# EAGLE library part DB9 (library IUTV3)
DB9 Connector female vertical Standard DB9 (D-Sub 9) serial connector. Can be used for CAN bus as well as RS485 and RS232. Footprint production proven. Spark Fun Electronics SKU : PRT-00429
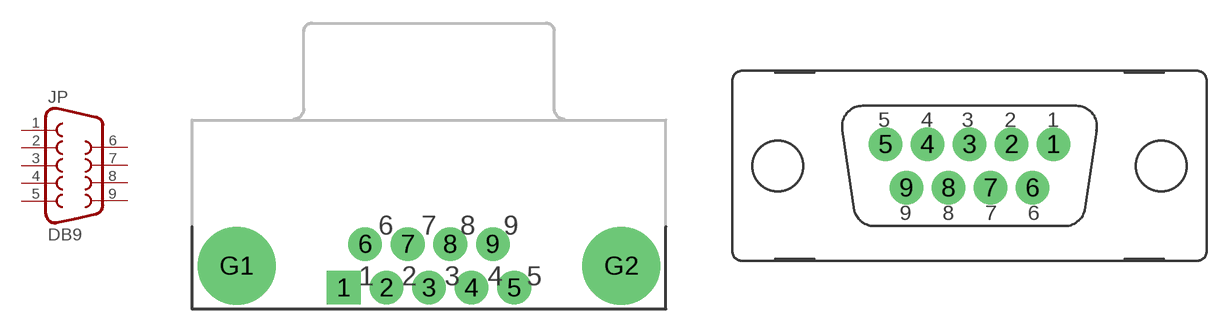
[diagram p13: symbol with the pads of DB9; footprints DB9, F09V]

Designator prefix JP

## DB9FEMALE (MOT_CLES_RADIOSPARE: Connecteur Sub-D pour circuit de carte imprimé FCI série Delta D, pas de 2.74mm Femelle 9 voies Angle droit Traversant; OC_FARNELL: 1348025; OC_RADIOSPARE: 251-970)  [DB9]
1  1  pas
2  2  pas
3  3  pas
4  4  pas
5  5  pas
6  6  pas
7  7  pas
8  8  pas
9  9  pas

## DB9FEMALE_V (MOT_CLES_RADIOSPARE: Connecteur Sub-D pour circuit de carte imprimé Femelle 9 voies Traversant; OC_FARNELL: 1210827; OC_RADIOSPARE: 528-3597)  [F09V]
Pads as for DB9

## DB9MALE (MOT_CLES_RADIOSPARE: Connecteur Sub-D pour circuit de carte imprimé male 9 voies angle droit Traversant; MPN: D09P13A4GL00LF; OC_FARNELL: 1348020; OC_RADIOSPARE: 252-478)  [DB9_MALE]
Pads as for DB9

## DB9MALE_V (MOT_CLES_RADIOSPARE: Connecteur Sub-D pour circuit de carte imprimé male 9 voies Traversant; MPN: D09P24A4PL00LF; OC_FARNELL: 2452369; OC_RADIOSPARE: 252-080)  [M09V]
Pads as for DB9

## Footprint DB9 (pad centres in mm)
SUB-D Femelle coudée
drill 1.016 pad 2.184 square: 1 -5.54,-1.42
drill 1.016 pad 2.184: 2 -2.77,-1.42; 3 0,-1.42; 4 2.77,-1.42; 5 5.54,-1.42; 6 -4.15,1.42; 7 -1.38,1.42; 8 1.38,1.42; 9 4.15,1.42
drill 3.302 pad 5.08: G1 -12.5,0; G2 12.5,0

## Footprint F09V (pad centres in mm)
SUB-D Female Vertical
drill 1.016 pad 2.184: 1 5.486,1.422; 2 2.743,1.422; 3 0,1.422; 4 -2.743,1.422; 5 -5.486,1.422; 6 4.115,-1.422; 7 1.372,-1.422; 8 -1.372,-1.422; 9 -4.115,-1.422
hole 3.302 at -12.522,0
hole 3.302 at 12.522,0

## Footprint DB9_MALE (pad centres in mm)
SUB-D male coudée
drill 1.016 pad 2.184 square: 1 5.54,-1.42
drill 1.016 pad 2.184: 2 2.77,-1.42; 3 0,-1.42; 4 -2.77,-1.42; 5 -5.54,-1.42; 6 4.15,1.42; 7 1.38,1.42; 8 -1.38,1.42; 9 -4.15,1.42
drill 3.302 pad 5.08: G1 -12.5,0; G2 12.5,0

## Footprint M09V (pad centres in mm)
SUB-D
drill 1.016 pad 2.184: 1 -5.486,1.422; 2 -2.743,1.422; 3 0,1.422; 4 2.743,1.422; 5 5.486,1.422; 6 -4.115,-1.422; 7 -1.372,-1.422; 8 1.372,-1.422; 9 4.115,-1.422
hole 3.302 at -12.522,0
hole 3.302 at 12.522,0